# Altium footprint library 51单片机全PCB封装库.PcbLib: 13 footprints
Each footprint in its own frame and in the unit in brackets; x right, y up, seen from the top. Pads: shape width x height; smd on the part's side, far side on the other; paste and mask are expansions set on the pad; w line width, h text height; cw(c..) or ccw(c..) is an arc to the next point about the centre after c.
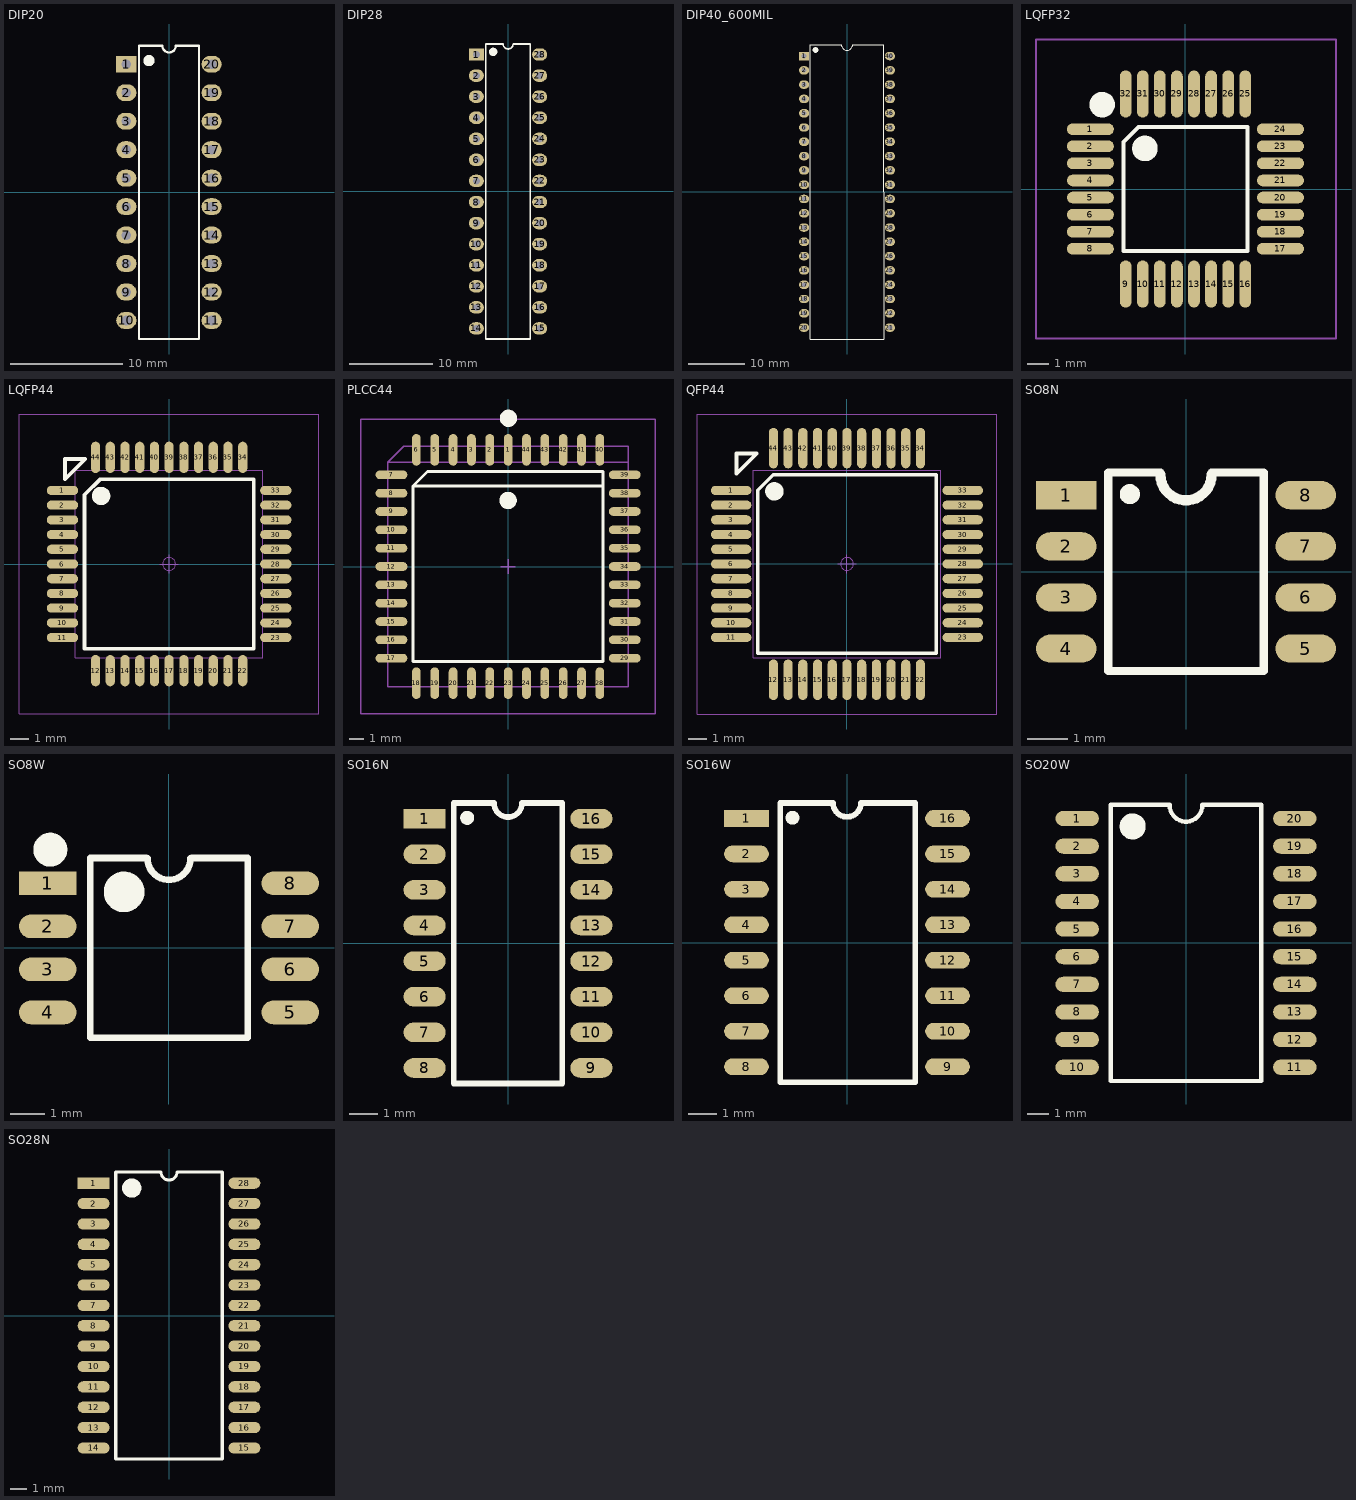
[diagram p0: the footprints below, top view; thin cyan lines are the x and y axes]

## DIP20 [mm] "300MIL"
pads (20):
  rect 1.8x1.5 hole 0.85: 1(-3.81,11.43)
  oval 1.8x1.5 hole 0.85: 2(-3.81,8.89) 3(-3.81,6.35) 4(-3.81,3.81) 5(-3.81,1.27) 6(-3.81,-1.27) 7(-3.81,-3.81) 8(-3.81,-6.35) 9(-3.81,-8.89) 10(-3.81,-11.43) 11(3.81,-11.43) 12(3.81,-8.89) 13(3.81,-6.35) 14(3.81,-3.81) 15(3.81,-1.27) 16(3.81,1.27) 17(3.81,3.81) 18(3.81,6.35) 19(3.81,8.89) 20(3.81,11.43)
Top Overlay:
  circle w0.5: c-1.79,11.75 r0.25
  lines w0.2: -0.594,13.081 -2.667,13.081 -2.667,-13.081 2.667,-13.081 2.667,13.081 0.625,13.081 ; -0.587,13.081 ccw(c0.013,13.081) 0.613,13.081
3D body: height 4.5, standoff -3.5, extent -3.9,-12.82 3.861,12.78

## DIP28 [mm] "300MIL"
pads (28):
  rect 1.8x1.5 hole 0.85: 1(-3.81,16.51)
  oval 1.8x1.5 hole 0.85: 2(-3.81,13.97) 3(-3.81,11.43) 4(-3.81,8.89) 5(-3.81,6.35) 6(-3.81,3.81) 7(-3.81,1.27) 8(-3.81,-1.27) 9(-3.81,-3.81) 10(-3.81,-6.35) 11(-3.81,-8.89) 12(-3.81,-11.43) 13(-3.81,-13.97) 14(-3.81,-16.51) 15(3.81,-16.51) 16(3.81,-13.97) 17(3.81,-11.43) 18(3.81,-8.89) 19(3.81,-6.35) 20(3.81,-3.81) 21(3.81,-1.27) 22(3.81,1.27) 23(3.81,3.81) 24(3.81,6.35) 25(3.81,8.89) 26(3.81,11.43) 27(3.81,13.97) 28(3.81,16.51)
Top Overlay:
  circle w0.5: c-1.79,16.83 r0.25
  lines w0.2: -0.594,17.78 -2.667,17.78 -2.667,-17.78 2.667,-17.78 2.667,17.78 0.625,17.78 ; -0.587,17.78 ccw(c0.013,17.78) 0.613,17.78
3D body: height 5.08, standoff -2.49, extent -3.928,-18.017 3.942,17.983

## DIP40_600MIL [mm]
pads (40):
  rect 1.8x1.5 hole 0.85: 1(-7.62,24.13)
  oval 1.8x1.5 hole 0.85: 2(-7.62,21.59) 3(-7.62,19.05) 4(-7.62,16.51) 5(-7.62,13.97) 6(-7.62,11.43) 7(-7.62,8.89) 8(-7.62,6.35) 9(-7.62,3.81) 10(-7.62,1.27) 11(-7.62,-1.27) 12(-7.62,-3.81) 13(-7.62,-6.35) 14(-7.62,-8.89) 15(-7.62,-11.43) 16(-7.62,-13.97) 17(-7.62,-16.51) 18(-7.62,-19.05) 19(-7.62,-21.59) 20(-7.62,-24.13) 21(7.62,-24.13) 22(7.62,-21.59) 23(7.62,-19.05) 24(7.62,-16.51) 25(7.62,-13.97) 26(7.62,-11.43) 27(7.62,-8.89) 28(7.62,-6.35) 29(7.62,-3.81) 30(7.62,-1.27) 31(7.62,1.27) 32(7.62,3.81) 33(7.62,6.35) 34(7.62,8.89) 35(7.62,11.43) 36(7.62,13.97) 37(7.62,16.51) 38(7.62,19.05) 39(7.62,21.59) 40(7.62,24.13)
Top Overlay:
  circle w0.5: c-5.604,25.212 r0.25
  lines w0.2: -1.006,26.162 -6.512,26.162 -6.518,-26.162 6.494,-26.162 6.473,26.162 1.006,26.162 ; -1,26.162 ccw(c0,26.162) 1,26.162
3D body: height 5.7, standoff -2.58, extent -7.742,-26.23 7.748,26.22

## LQFP32 [mm] "LQFP, 32-Leads, Body 9.2x9.2mm (max), Pitch 0.80mm,"
height 1.6
pads (32):
  oval 2.2x0.55 smd: 1(-4.45,2.8) 2(-4.45,2) 3(-4.45,1.2) 4(-4.45,0.4) 5(-4.45,-0.4) 6(-4.45,-1.2) 7(-4.45,-2) 8(-4.45,-2.8) 17(4.45,-2.8) 18(4.45,-2) 19(4.45,-1.2) 20(4.45,-0.4) 21(4.45,0.4) 22(4.45,1.2) 23(4.45,2) 24(4.45,2.8)
  oval 0.55x2.2 smd: 9(-2.8,-4.45) 10(-2,-4.45) 11(-1.2,-4.45) 12(-0.4,-4.45) 13(0.4,-4.45) 14(1.2,-4.45) 15(2,-4.45) 16(2.8,-4.45) 25(2.8,4.45) 26(2,4.45) 27(1.2,4.45) 28(0.4,4.45) 29(-0.4,4.45) 30(-1.2,4.45) 31(-2,4.45) 32(-2.8,4.45)
Top Overlay:
  circle w0.6: c-3.9,3.95 r0.3
  circle w0.6: c-1.9,1.9 r0.3
  lines w0.2: -2.9,-2.9 -2.9,2.2 -2.2,2.9 2.9,2.9 2.9,-2.9 -2.9,-2.9
Mechanical 15:
  lines w0.1: -7,-7 -7,7 7.05,7 7.05,-7 -7,-7
3D body: height 1.63, standoff -0.03, extent -4.5,-4.5 4.539,4.539

## LQFP44 [mm] "10X10X08P"
pads (44):
  oval 1.7x0.5 smd: 1(-5.8,4) 2(-5.8,3.2) 3(-5.8,2.4) 4(-5.8,1.6) 5(-5.8,0.8) 6(-5.8,0) 7(-5.8,-0.8) 8(-5.8,-1.6) 9(-5.8,-2.4) 10(-5.8,-3.2) 11(-5.8,-4) 23(5.8,-4) 24(5.8,-3.2) 25(5.8,-2.4) 26(5.8,-1.6) 27(5.8,-0.8) 28(5.8,0) 29(5.8,0.8) 30(5.8,1.6) 31(5.8,2.4) 32(5.8,3.2) 33(5.8,4)
  oval 0.5x1.7 smd: 12(-4,-5.8) 13(-3.2,-5.8) 14(-2.4,-5.8) 15(-1.6,-5.8) 16(-0.8,-5.8) 17(0,-5.8) 18(0.8,-5.8) 19(1.6,-5.8) 20(2.4,-5.8) 21(3.2,-5.8) 22(4,-5.8) 34(4,5.8) 35(3.2,5.8) 36(2.4,5.8) 37(1.6,5.8) 38(0.8,5.8) 39(0,5.8) 40(-0.8,5.8) 41(-1.6,5.8) 42(-2.4,5.8) 43(-3.2,5.8) 44(-4,5.8)
Top Overlay:
  circle w0.5: c-3.7,3.7 r0.25
  lines w0.2: -5.666,4.608 -5.666,5.708 -4.566,5.708 -5.666,4.608 ; -4.6,-4.6 4.6,-4.6 4.6,4.6 -3.762,4.6 -4.6,3.762 -4.6,-4.6
Mechanical 1:
  circle w0.05: c0,0 r0.35
  lines w0.001: -5.1,-5.1 5.1,-5.1 5.1,5.1 -5.1,5.1 -5.1,-5.1
  lines w0.05: -0.5,0 0.5,0 ; 0,-0.5 0,0.5 ; -8.164,-8.148 8.148,-8.148 8.148,8.148 -8.164,8.148 -8.164,-8.148
3D body: height 1.75, standoff 0, extent -6.02,-6.001 6.001,6.02

## PLCC44 [mm] "PLCC, 44-Leads, Body 17.5x17.5mm (max), Pitch 1.270mm,"
height 4.5
pads (44):
  oval 0.6x2.2 smd: 1(0,8.075) 2(-1.27,8.075) 3(-2.54,8.075) 4(-3.81,8.075) 5(-5.08,8.075) 6(-6.35,8.075) 18(-6.35,-8.075) 19(-5.08,-8.075) 20(-3.81,-8.075) 21(-2.54,-8.075) 22(-1.27,-8.075) 23(0,-8.075) 24(1.27,-8.075) 25(2.54,-8.075) 26(3.81,-8.075) 27(5.08,-8.075) 28(6.35,-8.075) 40(6.35,8.075) 41(5.08,8.075) 42(3.81,8.075) 43(2.54,8.075) 44(1.27,8.075)
  oval 2.2x0.6 smd: 7(-8.075,6.35) 8(-8.075,5.08) 9(-8.075,3.81) 10(-8.075,2.54) 11(-8.075,1.27) 12(-8.075,0) 13(-8.075,-1.27) 14(-8.075,-2.54) 15(-8.075,-3.81) 16(-8.075,-5.08) 17(-8.075,-6.35) 29(8.075,-6.35) 30(8.075,-5.08) 31(8.075,-3.81) 32(8.075,-2.54) 33(8.075,-1.27) 34(8.075,0) 35(8.075,1.27) 36(8.075,2.54) 37(8.075,3.81) 38(8.075,5.08) 39(8.075,6.35)
Top Overlay:
  circle w0.6: c0.02,10.26 r0.3
  circle w0.6: c0,4.575 r0.3
  lines w0.2: 6.575,5.575 -6.575,5.575 ; -6.575,5.575 -5.575,6.575 6.575,6.575 6.575,-6.575 -6.575,-6.575 -6.575,5.575
Mechanical 1:
  lines w0.1: -0.5,0 0.5,0 ; 0,-0.5 0,0.5 ; 8.33,7.23 -8.33,7.23 ; -8.33,7.23 -8.33,-8.33 8.33,-8.33 8.33,8.33 -7.23,8.33 -8.33,7.23 ; -10.216,-10.211 -10.216,10.206 10.201,10.206 10.201,-10.211 -10.216,-10.211
3D body: height 4.55, standoff -0.05, extent -8.65,-8.654 8.65,8.646

## QFP44 [mm] "10X10X08P"
pads (44):
  oval 2.2x0.5 smd: 1(-6.3,4) 2(-6.3,3.2) 3(-6.3,2.4) 4(-6.3,1.6) 5(-6.3,0.8) 6(-6.3,0) 7(-6.3,-0.8) 8(-6.3,-1.6) 9(-6.3,-2.4) 10(-6.3,-3.2) 11(-6.3,-4) 23(6.3,-4) 24(6.3,-3.2) 25(6.3,-2.4) 26(6.3,-1.6) 27(6.3,-0.8) 28(6.3,0) 29(6.3,0.8) 30(6.3,1.6) 31(6.3,2.4) 32(6.3,3.2) 33(6.3,4)
  oval 0.5x2.2 smd: 12(-4,-6.3) 13(-3.2,-6.3) 14(-2.4,-6.3) 15(-1.6,-6.3) 16(-0.8,-6.3) 17(0,-6.3) 18(0.8,-6.3) 19(1.6,-6.3) 20(2.4,-6.3) 21(3.2,-6.3) 22(4,-6.3) 34(4,6.3) 35(3.2,6.3) 36(2.4,6.3) 37(1.6,6.3) 38(0.8,6.3) 39(0,6.3) 40(-0.8,6.3) 41(-1.6,6.3) 42(-2.4,6.3) 43(-3.2,6.3) 44(-4,6.3)
Top Overlay:
  circle w0.5: c-3.95,3.95 r0.25
  lines w0.2: -6.011,4.913 -6.011,6.013 -4.911,6.013 -6.011,4.913 ; -4.85,-4.85 4.85,-4.85 4.85,4.85 -4.01,4.85 -4.85,4.01 -4.85,-4.85
Mechanical 1:
  circle w0.05: c0,0 r0.35
  lines w0.001: -5.1,-5.1 -5.1,5.1 5.1,5.1 5.1,-5.1 -5.1,-5.1
  lines w0.05: -0.5,0 0.5,0 ; 0,-0.5 0,0.5 ; -8.153,-8.164 -8.153,8.158 8.158,8.158 8.158,-8.164 -8.153,-8.164
3D body: height 2.5, standoff 0, extent -6.617,-6.617 6.604,6.604

## SO8N [mm] "Body5.0x3.9mm (max), Pitch 1.27mm, OK"
pads (8):
  rect 1.5x0.7 smd: 1(-2.975,1.905)
  oval 1.5x0.7 smd: 2(-2.975,0.635) 3(-2.975,-0.635) 4(-2.975,-1.905) 5(2.975,-1.905) 6(2.975,-0.635) 7(2.975,0.635) 8(2.975,1.905)
Top Overlay:
  circle w0.25: c-1.395,1.93 r0.125
  lines w0.2: -0.635,2.464 -1.93,2.464 -1.93,-2.456 1.93,-2.456 1.93,2.464 0.635,2.464
  lines w0.254: -0.635,2.413 ccw(c0,2.413) 0.635,2.413
3D body: height 1.76, standoff -0.01, extent -3.068,-2.464 3.068,2.426

## SO8W [mm] "5.3x5.3mm Pitch 1.27mm"
height 2
pads (8):
  rect 1.7x0.7 smd: 1(-3.575,1.905)
  oval 1.7x0.7 smd: 2(-3.575,0.635) 3(-3.575,-0.635) 4(-3.575,-1.905) 5(3.575,-1.905) 6(3.575,-0.635) 7(3.575,0.635) 8(3.575,1.905)
Top Overlay:
  circle w0.5: c-3.501,2.896 r0.25
  circle w0.6: c-1.325,1.65 r0.3
  lines w0.2: -0.66,2.65 -2.325,2.65 -2.325,-2.65 2.325,-2.65 2.325,2.65 0.66,2.65 ; -0.635,2.642 ccw(c0,2.642) 0.635,2.642
3D body: height 1.75, standoff -0.01, extent -4.034,-2.73 4.068,2.73

## SO16N [mm] "Body 10x3.9mm (max), Pitch 1.27mm,OK"
pads (16):
  rect 1.5x0.7 smd: 1(-2.975,4.445)
  oval 1.5x0.7 smd: 2(-2.975,3.175) 3(-2.975,1.905) 4(-2.975,0.635) 5(-2.975,-0.635) 6(-2.975,-1.905) 7(-2.975,-3.175) 8(-2.975,-4.445) 9(2.975,-4.445) 10(2.975,-3.175) 11(2.975,-1.905) 12(2.975,-0.635) 13(2.975,0.635) 14(2.975,1.905) 15(2.975,3.175) 16(2.975,4.445)
Top Overlay:
  circle w0.25: c-1.455,4.472 r0.125
  lines w0.2: -1.93,-5 -1.93,5 -0.5,5 ccw(c0,5) 0.5,5 1.93,5 1.93,-5 -1.93,-5
3D body: height 1.76, standoff -0.01, extent -3.098,-4.99 3.039,4.98

## SO16W [mm] "P7.2"
pads (16):
  rect 1.6x0.6 smd: 1(-3.6,4.445)
  oval 1.6x0.6 smd: 2(-3.6,3.175) 3(-3.6,1.905) 4(-3.6,0.635) 5(-3.6,-0.635) 6(-3.6,-1.905) 7(-3.6,-3.175) 8(-3.6,-4.445) 9(3.6,-4.445) 10(3.6,-3.175) 11(3.6,-1.905) 12(3.6,-0.635) 13(3.6,0.635) 14(3.6,1.905) 15(3.6,3.175) 16(3.6,4.445)
Top Overlay:
  circle w0.25: c-1.954,4.47 r0.125
  lines w0.2: -2.388,-5 2.438,-5 2.438,5 0.5,5 cw(c0,5) -0.5,5 -2.388,5 -2.388,-5
3D body: height 1.98, standoff -0.02, extent -4.011,-5.102 3.91,5.098

## SO20W [mm] "Body 12.7x7.6mm (max), Pitch 1.27mm, OK"
height 2.2
pads (20):
  oval 2x0.7 smd: 1(-5,5.715) 2(-5,4.445) 3(-5,3.175) 4(-5,1.905) 5(-5,0.635) 6(-5,-0.635) 7(-5,-1.905) 8(-5,-3.175) 9(-5,-4.445) 10(-5,-5.715) 11(5,-5.715) 12(5,-4.445) 13(5,-3.175) 14(5,-1.905) 15(5,-0.635) 16(5,0.635) 17(5,1.905) 18(5,3.175) 19(5,4.445) 20(5,5.715)
Top Overlay:
  circle w0.6: c-2.45,5.35 r0.3
  lines w0.2: -0.75,6.321 ccw(c0,6.321) 0.75,6.321 ; -0.75,6.35 -3.454,6.35 -3.454,-6.35 3.454,-6.35 3.454,6.35 0.75,6.35
3D body: height 2.7, standoff 0, extent -5.15,-6.401 5.15,6.399

## SO28N [mm] "Body 17.9x7.5mm (max), Pitch 1.27mm,"
height 2.4
pads (28):
  rect 2x0.7 smd: 1(-4.7,8.255)
  oval 2x0.7 smd: 2(-4.7,6.985) 3(-4.7,5.715) 4(-4.7,4.445) 5(-4.7,3.175) 6(-4.7,1.905) 7(-4.7,0.635) 8(-4.7,-0.635) 9(-4.7,-1.905) 10(-4.7,-3.175) 11(-4.7,-4.445) 12(-4.7,-5.715) 13(-4.7,-6.985) 14(-4.7,-8.255) 15(4.7,-8.255) 16(4.7,-6.985) 17(4.7,-5.715) 18(4.7,-4.445) 19(4.7,-3.175) 20(4.7,-1.905) 21(4.7,-0.635) 22(4.7,0.635) 23(4.7,1.905) 24(4.7,3.175) 25(4.7,4.445) 26(4.7,5.715) 27(4.7,6.985) 28(4.7,8.255)
Top Overlay:
  circle w0.6: c-2.325,7.95 r0.3
  lines w0.2: -3.325,8.95 -3.325,-8.95 3.325,-8.95 3.325,8.95 ; -3.3,8.95 -0.5,8.95 ccw(c0,8.95) 0.5,8.95 3.3,8.95
3D body: height 2.39, standoff -0.25, extent -5.335,-9.03 5.335,9.05